# Altium footprint library 691 253 800 0xx.PcbLib: 2 footprints
Each footprint in its own frame and in the unit in brackets; x right, y up, seen from the top. Pads: shape width x height; smd on the part's side, far side on the other; paste and mask are expansions set on the pad; w line width, h text height; cw(c..) or ccw(c..) is an arc to the next point about the centre after c.
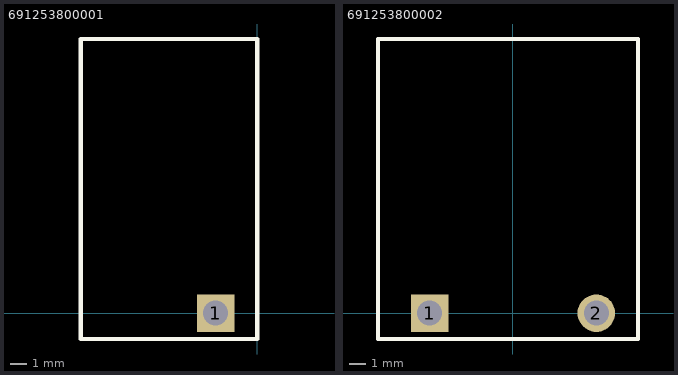
[diagram p0: the footprints below, top view; thin cyan lines are the x and y axes]

## 691253800001 [mm] "Serie 2538 - 10.00 mm _ 1 pin"
height 11.2
pads (1):
  rect 2.25x2.25 hole 1.5: 1(-2.5,0)
Top Overlay:
  lines w0.254: -10.6,-1.55 -10.6,16.45 0,16.45 0,-1.55 -10.6,-1.55
3D body: height 11.35, standoff -3.85, extent -10.6,-1.6 0,16.4

## 691253800002 [mm] "Serie 2538 - 10.00 mm _ 2 pins"
height 11.2
pads (2):
  rect 2.25x2.25 hole 1.5: 1(-5,0)
  round 2.25 hole 1.5: 2(5,0)
Top Overlay:
  lines w0.254: -8.1,-1.55 -8.1,16.45 7.5,16.45 7.5,-1.55 -8.1,-1.55
3D body: height 11.35, standoff -3.85, extent -8.1,-1.6 7.5,16.4